# Altium schematic symbol library RB1-125BAG1A.SchLib: 1 symbol
Pins are listed as number, name and electrical type; pins without a type are passive.

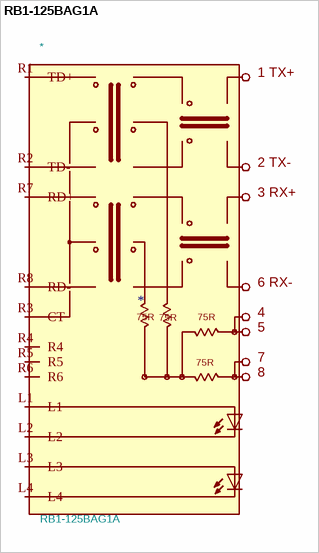
[diagram p0: symbol RB1-125BAG1A]

## RB1-125BAG1A
designator *  value RB1-125BAG1A
MANUFACTURER: WIZnet; Footprint: RB1-125BAG1A:WIZNET_RB1-125BAG1A
footprint WIZNET_RB1-125BAG1A
pins: L1, L2, L3, L4, R1 TD+, R2 TD-, R3 CT, R4, R5, R6, R7 RD+, R8 RD-
text: 1 TX+; 2 TX-; 3 RX+; 6 RX-; 75R; 4; 5; 7; 8